# Altium schematic symbol library Digi_XbeeSX.SchLib: 1 symbol
Pins are listed as number, name and electrical type; pins without a type are passive.

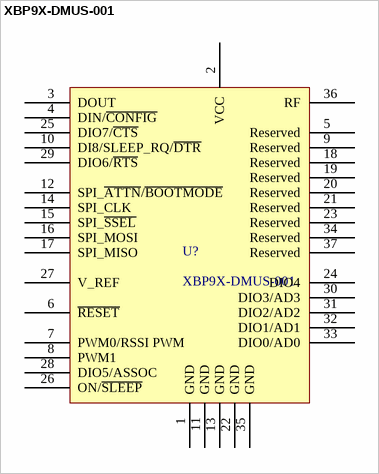
[diagram p0: symbol XBP9X-DMUS-001]

## XBP9X-DMUS-001
designator U?
General ISM < 1GHz Transceiver Module 902MHz ~ 928MHz Antenna Not Included, U.FL Surface Mount
footprint XBee_1W_Base
pins: 1 GND, 2 VCC, 3 DOUT, 4 DIN/~{CONFIG}, 5 Reserved, 6 ~{RESET}, 7 PWM0/RSSI PWM, 8 PWM1, 9 Reserved, 10 DI8/SLEEP_RQ/~{DTR}, 11 GND, 12 SPI_~{ATTN}/~{BOOTMODE}, 13 GND, 14 SPI_CLK, 15 SPI_~{SSEL}, 16 SPI_MOSI, 17 SPI_MISO, 18 Reserved, 19 Reserved, 20 Reserved, 21 Reserved, 22 GND, 23 Reserved, 24 DIO4, 25 DIO7/~{CTS}, 26 ON/~{SLEEP}, 27 V_REF, 28 DIO5/ASSOC, 29 DIO6/~{RTS}, 30 DIO3/AD3, 31 DIO2/AD2, 32 DIO1/AD1, 33 DIO0/AD0, 34 Reserved, 35 GND, 36 RF, 37 Reserved